# Altium footprint library PolarCap5mm.PcbLib: 1 footprints
Each footprint in its own frame and in the unit in brackets; x right, y up, seen from the top. Pads: shape width x height; smd on the part's side, far side on the other; paste and mask are expansions set on the pad; w line width, h text height; cw(c..) or ccw(c..) is an arc to the next point about the centre after c.

## PolarCap [mil] "Polar Cap 5 mm"
pads (4):
  round 60 hole 30: 1(-200000,-200000) 1(-50,0) 2(-199900,-200000) 2(50,0)
Top Overlay:
  circle w10: c0,0 r98.43
  lines w10: -200122.05,-200000 -200066.93,-200000 ; -200094.49,-200031.5 -200094.49,-199972.44 ; -59.06,59.06 -35.43,59.06 ; -47.24,47.24 -47.24,70.87